# Altium integrated library Renesas Microcontroller R8C.IntLib: 628 symbols (part 23 of 33)
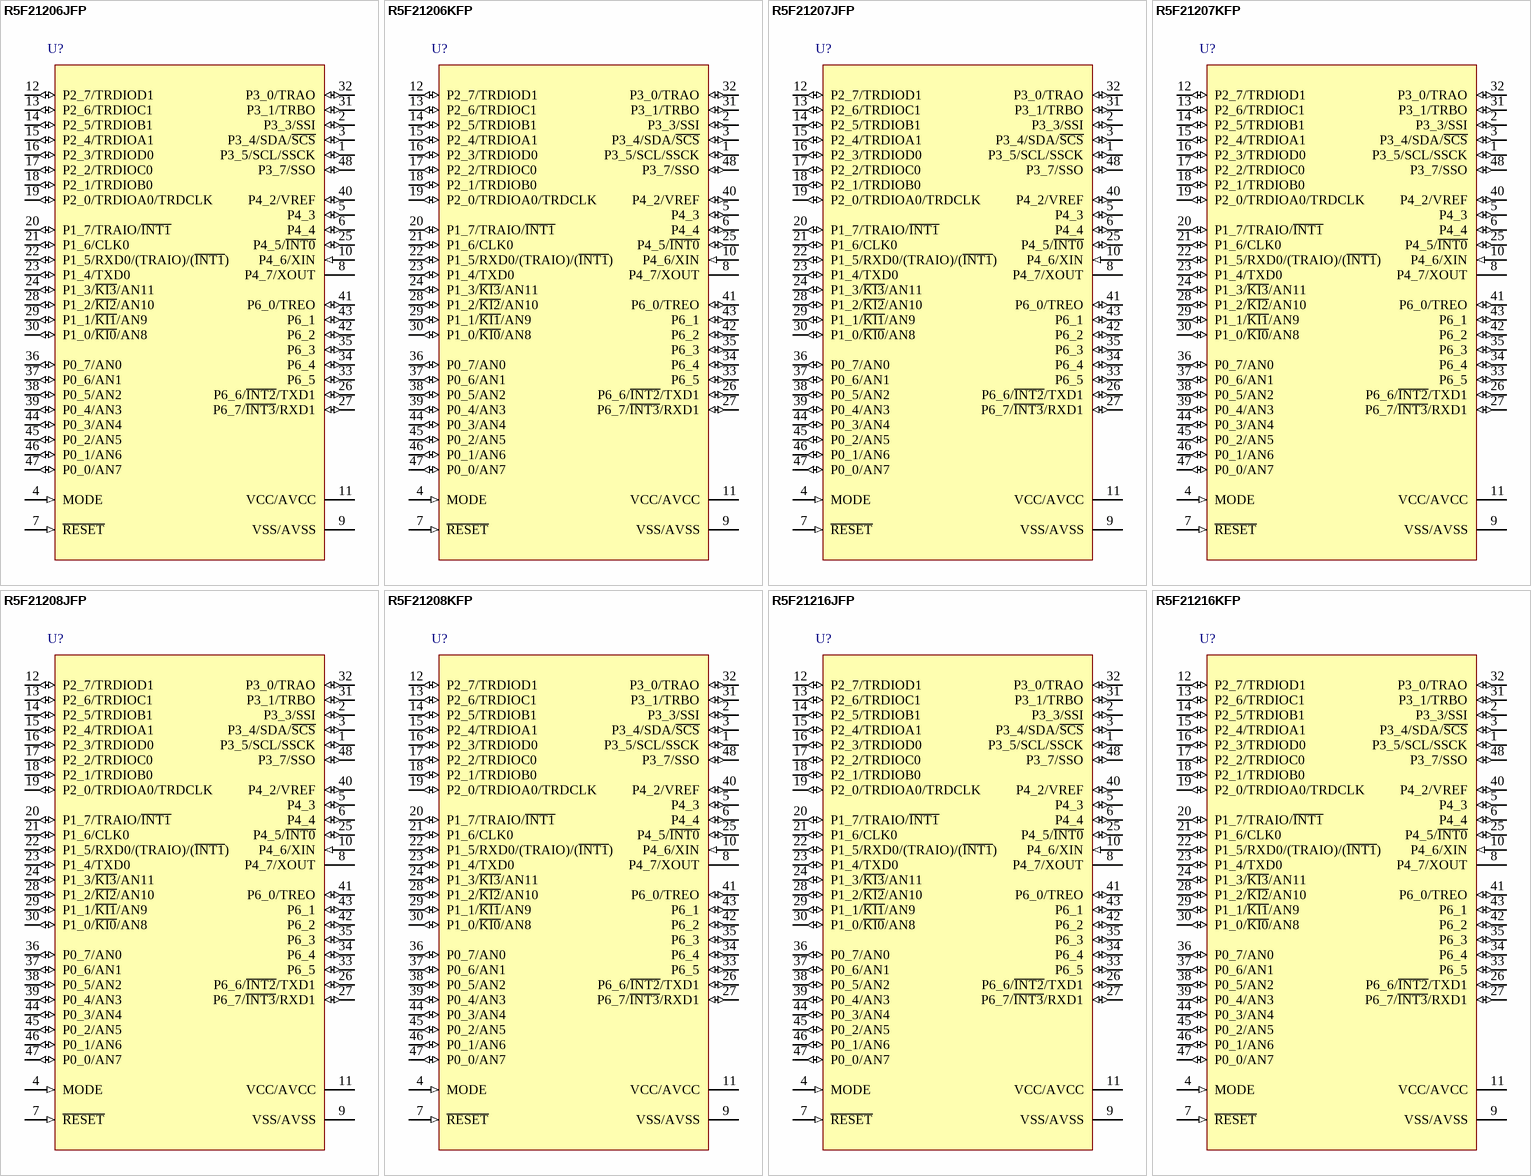
[diagram p138: symbols R5F21206JFP to R5F21216KFP]

## R5F21208JFP
designator U?
R8C/20 Group Single Chip 16-Bit CMOS MCU, 64K ROM, 3K RAM, J Version; Published: 30-Oct-2009; DatasheetVersion: Rev.2.00, Aug-2008; PackageVersion: Oct-2005; PackageReference: PLQP0048KB-A; Publisher: Altium Limited; PackageDescription: 48-Pin Plastic Low Profile QFP, 7 x 7 x 1.4 mm Body, 0.5 mm Pitch; Code_JEITA: P-LQFP48-7x7-0.50; Code_IPC: SQFP50P900X900-48; ComponentLink1Description: Manufacturer Link; ComponentLink1URL: http://sg.renesas.com/fmwk.jsp?cnt=r8c_family_landing.jsp&fp=/products/mpumcu/r8c_family/; ComponentLink2Description: Datasheet; ComponentLink2URL: http://documentation.renesas.com/eng/products/mpumcu/rej03b0120_r8c2021ds.pdf; ComponentLink3Description: Packaging Specification; ComponentLink3URL: http://sg.renesas.com/media/products/common_info/package/pdf/ic/code/plqp0048kb_a.pdf
footprint PLQP0048KB-A_N (Shrink QFP, 48-Leads, Body 7x7mm, Pitch 0.5mm, IPC Medium Density)
footprint PLQP0048KB-A_L (Shrink QFP, 48-Leads, Body 7x7mm, Pitch 0.5mm, IPC High Density)
footprint PLQP0048KB-A_M (Shrink QFP, 48-Leads, Body 7x7mm, Pitch 0.5mm, IPC Low Density)
pins: 1 P3_5/SCL/SSCK (io), 2 P3_3/SSI (io), 3 P3_4/SDA/~{SCS} (io), 4 MODE (in), 5 P4_3 (io), 6 P4_4 (io), 7 ~{RESET} (in), 8 P4_7/XOUT, 9 VSS/AVSS (power), 10 P4_6/XIN (in), 11 VCC/AVCC (power), 12 P2_7/TRDIOD1 (io), 13 P2_6/TRDIOC1 (io), 14 P2_5/TRDIOB1 (io), 15 P2_4/TRDIOA1 (io), 16 P2_3/TRDIOD0 (io), 17 P2_2/TRDIOC0 (io), 18 P2_1/TRDIOB0 (io), 19 P2_0/TRDIOA0/TRDCLK (io), 20 P1_7/TRAIO/~{INT1} (io), 21 P1_6/CLK0 (io), 22 P1_5/RXD0/(TRAIO)/(~{INT1}) (io), 23 P1_4/TXD0 (io), 24 P1_3/~{KI3}/AN11 (io), 25 P4_5/~{INT0} (io), 26 P6_6/~{INT2}/TXD1 (io), 27 P6_7/~{INT3}/RXD1 (io), 28 P1_2/~{KI2}/AN10 (io), 29 P1_1/~{KI1}/AN9 (io), 30 P1_0/~{KI0}/AN8 (io), 31 P3_1/TRBO (io), 32 P3_0/TRAO (io), 33 P6_5 (io), 34 P6_4 (io), 35 P6_3 (io), 36 P0_7/AN0 (io), 37 P0_6/AN1 (io), 38 P0_5/AN2 (io), 39 P0_4/AN3 (io), 40 P4_2/VREF (io), 41 P6_0/TREO (io), 42 P6_2 (io), 43 P6_1 (io), 44 P0_3/AN4 (io), 45 P0_2/AN5 (io), 46 P0_1/AN6 (io), 47 P0_0/AN7 (io), 48 P3_7/SSO (io)

## R5F21208KFP
designator U?
R8C/20 Group Single Chip 16-Bit CMOS MCU, 64K ROM, 3K RAM, K Version; Published: 30-Oct-2009; DatasheetVersion: Rev.2.00, Aug-2008; PackageVersion: Oct-2005; PackageReference: PLQP0048KB-A; Publisher: Altium Limited; PackageDescription: 48-Pin Plastic Low Profile QFP, 7 x 7 x 1.4 mm Body, 0.5 mm Pitch; Code_JEITA: P-LQFP48-7x7-0.50; Code_IPC: SQFP50P900X900-48; ComponentLink1Description: Manufacturer Link; ComponentLink1URL: http://sg.renesas.com/fmwk.jsp?cnt=r8c_family_landing.jsp&fp=/products/mpumcu/r8c_family/; ComponentLink2Description: Datasheet; ComponentLink2URL: http://documentation.renesas.com/eng/products/mpumcu/rej03b0120_r8c2021ds.pdf; ComponentLink3Description: Packaging Specification; ComponentLink3URL: http://sg.renesas.com/media/products/common_info/package/pdf/ic/code/plqp0048kb_a.pdf
footprint PLQP0048KB-A_N (Shrink QFP, 48-Leads, Body 7x7mm, Pitch 0.5mm, IPC Medium Density)
footprint PLQP0048KB-A_L (Shrink QFP, 48-Leads, Body 7x7mm, Pitch 0.5mm, IPC High Density)
footprint PLQP0048KB-A_M (Shrink QFP, 48-Leads, Body 7x7mm, Pitch 0.5mm, IPC Low Density)
pins: 1 P3_5/SCL/SSCK (io), 2 P3_3/SSI (io), 3 P3_4/SDA/~{SCS} (io), 4 MODE (in), 5 P4_3 (io), 6 P4_4 (io), 7 ~{RESET} (in), 8 P4_7/XOUT, 9 VSS/AVSS (power), 10 P4_6/XIN (in), 11 VCC/AVCC (power), 12 P2_7/TRDIOD1 (io), 13 P2_6/TRDIOC1 (io), 14 P2_5/TRDIOB1 (io), 15 P2_4/TRDIOA1 (io), 16 P2_3/TRDIOD0 (io), 17 P2_2/TRDIOC0 (io), 18 P2_1/TRDIOB0 (io), 19 P2_0/TRDIOA0/TRDCLK (io), 20 P1_7/TRAIO/~{INT1} (io), 21 P1_6/CLK0 (io), 22 P1_5/RXD0/(TRAIO)/(~{INT1}) (io), 23 P1_4/TXD0 (io), 24 P1_3/~{KI3}/AN11 (io), 25 P4_5/~{INT0} (io), 26 P6_6/~{INT2}/TXD1 (io), 27 P6_7/~{INT3}/RXD1 (io), 28 P1_2/~{KI2}/AN10 (io), 29 P1_1/~{KI1}/AN9 (io), 30 P1_0/~{KI0}/AN8 (io), 31 P3_1/TRBO (io), 32 P3_0/TRAO (io), 33 P6_5 (io), 34 P6_4 (io), 35 P6_3 (io), 36 P0_7/AN0 (io), 37 P0_6/AN1 (io), 38 P0_5/AN2 (io), 39 P0_4/AN3 (io), 40 P4_2/VREF (io), 41 P6_0/TREO (io), 42 P6_2 (io), 43 P6_1 (io), 44 P0_3/AN4 (io), 45 P0_2/AN5 (io), 46 P0_1/AN6 (io), 47 P0_0/AN7 (io), 48 P3_7/SSO (io)

## R5F21216JFP
designator U?
R8C/21 Group Single Chip 16-Bit CMOS MCU, 32K ROM + 1K x2 Data Flash, 2K RAM, J Version; Published: 30-Oct-2009; DatasheetVersion: Rev.2.00, Aug-2008; PackageVersion: Oct-2005; PackageReference: PLQP0048KB-A; Publisher: Altium Limited; PackageDescription: 48-Pin Plastic Low Profile QFP, 7 x 7 x 1.4 mm Body, 0.5 mm Pitch; Supplier 1: Digi-Key; Supplier Part Number 1: R5F21216JFP-ND; Code_JEITA: P-LQFP48-7x7-0.50; Code_IPC: SQFP50P900X900-48; ComponentLink1Description: Manufacturer Link; ComponentLink1URL: http://sg.renesas.com/fmwk.jsp?cnt=r8c_family_landing.jsp&fp=/products/mpumcu/r8c_family/; ComponentLink2Description: Datasheet; ComponentLink2URL: http://documentation.renesas.com/eng/products/mpumcu/rej03b0120_r8c2021ds.pdf; ComponentLink3Description: Packaging Specification; ComponentLink3URL: http://sg.renesas.com/media/products/common_info/package/pdf/ic/code/plqp0048kb_a.pdf
footprint PLQP0048KB-A_N (Shrink QFP, 48-Leads, Body 7x7mm, Pitch 0.5mm, IPC Medium Density)
footprint PLQP0048KB-A_L (Shrink QFP, 48-Leads, Body 7x7mm, Pitch 0.5mm, IPC High Density)
footprint PLQP0048KB-A_M (Shrink QFP, 48-Leads, Body 7x7mm, Pitch 0.5mm, IPC Low Density)
pins: 1 P3_5/SCL/SSCK (io), 2 P3_3/SSI (io), 3 P3_4/SDA/~{SCS} (io), 4 MODE (in), 5 P4_3 (io), 6 P4_4 (io), 7 ~{RESET} (in), 8 P4_7/XOUT, 9 VSS/AVSS (power), 10 P4_6/XIN (in), 11 VCC/AVCC (power), 12 P2_7/TRDIOD1 (io), 13 P2_6/TRDIOC1 (io), 14 P2_5/TRDIOB1 (io), 15 P2_4/TRDIOA1 (io), 16 P2_3/TRDIOD0 (io), 17 P2_2/TRDIOC0 (io), 18 P2_1/TRDIOB0 (io), 19 P2_0/TRDIOA0/TRDCLK (io), 20 P1_7/TRAIO/~{INT1} (io), 21 P1_6/CLK0 (io), 22 P1_5/RXD0/(TRAIO)/(~{INT1}) (io), 23 P1_4/TXD0 (io), 24 P1_3/~{KI3}/AN11 (io), 25 P4_5/~{INT0} (io), 26 P6_6/~{INT2}/TXD1 (io), 27 P6_7/~{INT3}/RXD1 (io), 28 P1_2/~{KI2}/AN10 (io), 29 P1_1/~{KI1}/AN9 (io), 30 P1_0/~{KI0}/AN8 (io), 31 P3_1/TRBO (io), 32 P3_0/TRAO (io), 33 P6_5 (io), 34 P6_4 (io), 35 P6_3 (io), 36 P0_7/AN0 (io), 37 P0_6/AN1 (io), 38 P0_5/AN2 (io), 39 P0_4/AN3 (io), 40 P4_2/VREF (io), 41 P6_0/TREO (io), 42 P6_2 (io), 43 P6_1 (io), 44 P0_3/AN4 (io), 45 P0_2/AN5 (io), 46 P0_1/AN6 (io), 47 P0_0/AN7 (io), 48 P3_7/SSO (io)

## R5F21216KFP
designator U?
R8C/21 Group Single Chip 16-Bit CMOS MCU, 32K ROM + 1K x2 Data Flash, 2K RAM, K Version; Published: 30-Oct-2009; DatasheetVersion: Rev.2.00, Aug-2008; PackageVersion: Oct-2005; PackageReference: PLQP0048KB-A; Publisher: Altium Limited; PackageDescription: 48-Pin Plastic Low Profile QFP, 7 x 7 x 1.4 mm Body, 0.5 mm Pitch; Code_JEITA: P-LQFP48-7x7-0.50; Code_IPC: SQFP50P900X900-48; ComponentLink1Description: Manufacturer Link; ComponentLink1URL: http://sg.renesas.com/fmwk.jsp?cnt=r8c_family_landing.jsp&fp=/products/mpumcu/r8c_family/; ComponentLink2Description: Datasheet; ComponentLink2URL: http://documentation.renesas.com/eng/products/mpumcu/rej03b0120_r8c2021ds.pdf; ComponentLink3Description: Packaging Specification; ComponentLink3URL: http://sg.renesas.com/media/products/common_info/package/pdf/ic/code/plqp0048kb_a.pdf
footprint PLQP0048KB-A_N (Shrink QFP, 48-Leads, Body 7x7mm, Pitch 0.5mm, IPC Medium Density)
footprint PLQP0048KB-A_L (Shrink QFP, 48-Leads, Body 7x7mm, Pitch 0.5mm, IPC High Density)
footprint PLQP0048KB-A_M (Shrink QFP, 48-Leads, Body 7x7mm, Pitch 0.5mm, IPC Low Density)
pins: 1 P3_5/SCL/SSCK (io), 2 P3_3/SSI (io), 3 P3_4/SDA/~{SCS} (io), 4 MODE (in), 5 P4_3 (io), 6 P4_4 (io), 7 ~{RESET} (in), 8 P4_7/XOUT, 9 VSS/AVSS (power), 10 P4_6/XIN (in), 11 VCC/AVCC (power), 12 P2_7/TRDIOD1 (io), 13 P2_6/TRDIOC1 (io), 14 P2_5/TRDIOB1 (io), 15 P2_4/TRDIOA1 (io), 16 P2_3/TRDIOD0 (io), 17 P2_2/TRDIOC0 (io), 18 P2_1/TRDIOB0 (io), 19 P2_0/TRDIOA0/TRDCLK (io), 20 P1_7/TRAIO/~{INT1} (io), 21 P1_6/CLK0 (io), 22 P1_5/RXD0/(TRAIO)/(~{INT1}) (io), 23 P1_4/TXD0 (io), 24 P1_3/~{KI3}/AN11 (io), 25 P4_5/~{INT0} (io), 26 P6_6/~{INT2}/TXD1 (io), 27 P6_7/~{INT3}/RXD1 (io), 28 P1_2/~{KI2}/AN10 (io), 29 P1_1/~{KI1}/AN9 (io), 30 P1_0/~{KI0}/AN8 (io), 31 P3_1/TRBO (io), 32 P3_0/TRAO (io), 33 P6_5 (io), 34 P6_4 (io), 35 P6_3 (io), 36 P0_7/AN0 (io), 37 P0_6/AN1 (io), 38 P0_5/AN2 (io), 39 P0_4/AN3 (io), 40 P4_2/VREF (io), 41 P6_0/TREO (io), 42 P6_2 (io), 43 P6_1 (io), 44 P0_3/AN4 (io), 45 P0_2/AN5 (io), 46 P0_1/AN6 (io), 47 P0_0/AN7 (io), 48 P3_7/SSO (io)

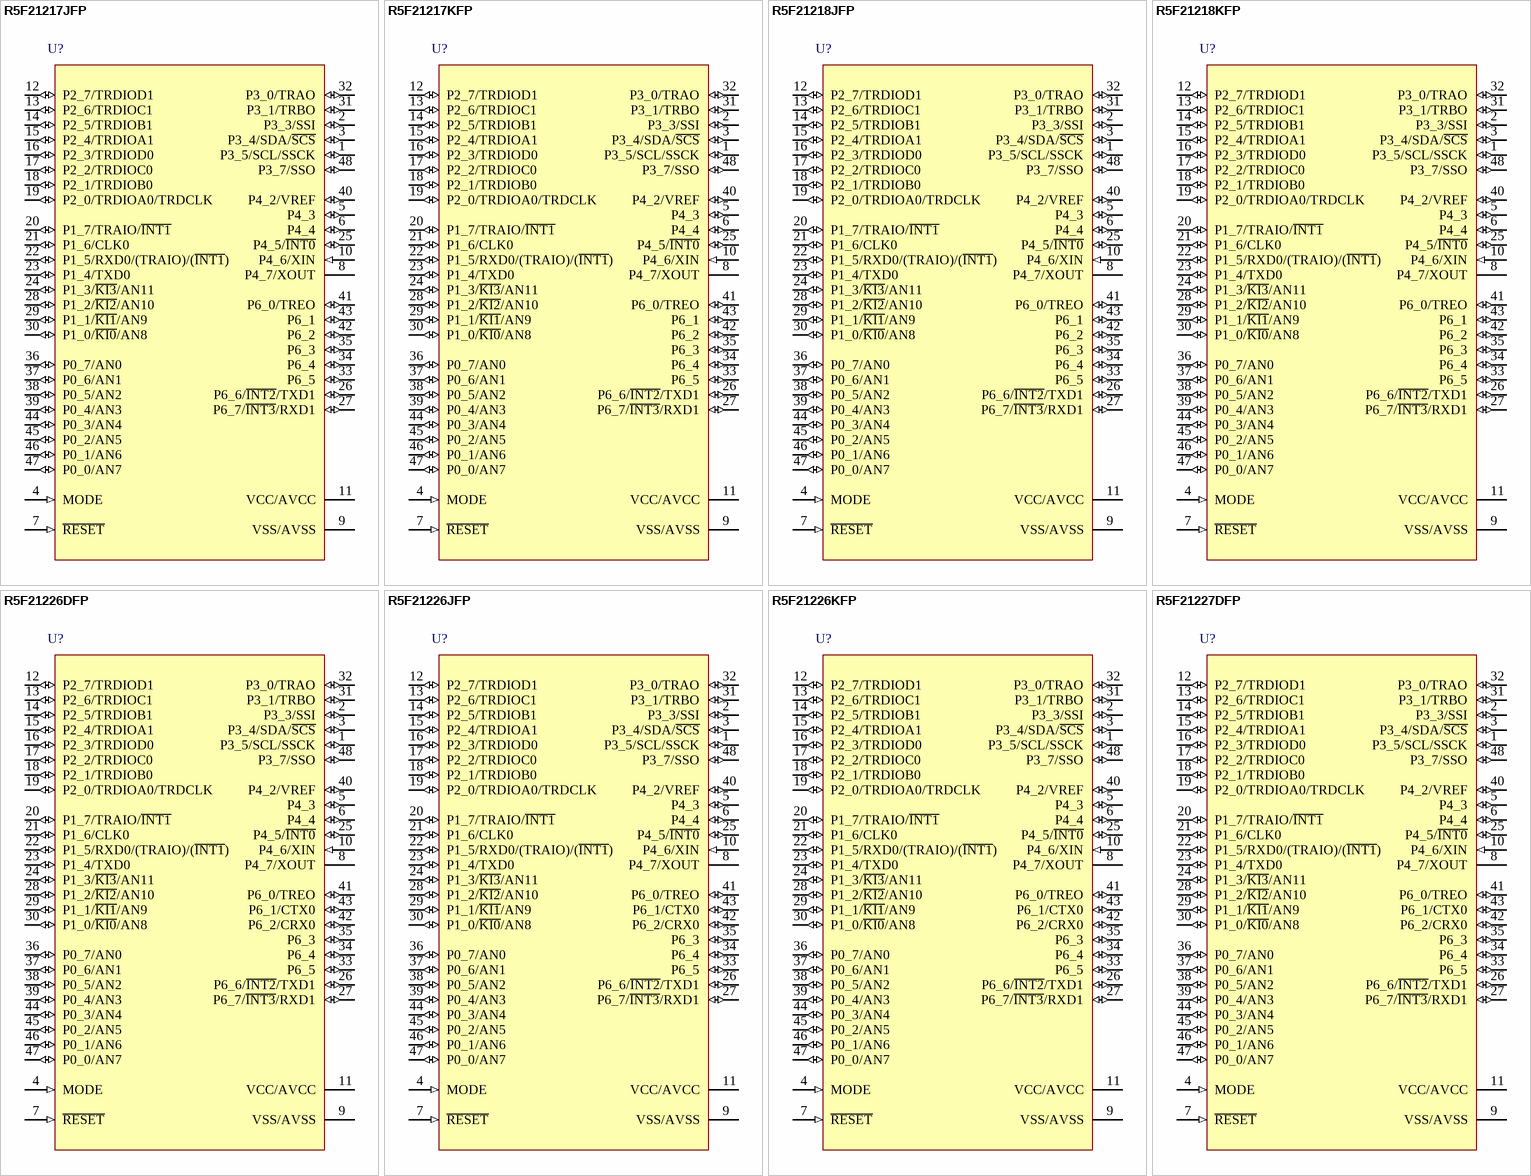
[diagram p80: symbols R5F21217JFP to R5F21227DFP]

## R5F21217JFP
designator U?
R8C/21 Group Single Chip 16-Bit CMOS MCU, 48K ROM + 1K x2 Data Flash, 2.5K RAM, J Version; Published: 30-Oct-2009; DatasheetVersion: Rev.2.00, Aug-2008; PackageVersion: Oct-2005; PackageReference: PLQP0048KB-A; Publisher: Altium Limited; PackageDescription: 48-Pin Plastic Low Profile QFP, 7 x 7 x 1.4 mm Body, 0.5 mm Pitch; Supplier 1: Digi-Key; Supplier Part Number 1: R5F21217JFP-ND; Code_JEITA: P-LQFP48-7x7-0.50; Code_IPC: SQFP50P900X900-48; ComponentLink1Description: Manufacturer Link; ComponentLink1URL: http://sg.renesas.com/fmwk.jsp?cnt=r8c_family_landing.jsp&fp=/products/mpumcu/r8c_family/; ComponentLink2Description: Datasheet; ComponentLink2URL: http://documentation.renesas.com/eng/products/mpumcu/rej03b0120_r8c2021ds.pdf; ComponentLink3Description: Packaging Specification; ComponentLink3URL: http://sg.renesas.com/media/products/common_info/package/pdf/ic/code/plqp0048kb_a.pdf
footprint PLQP0048KB-A_N (Shrink QFP, 48-Leads, Body 7x7mm, Pitch 0.5mm, IPC Medium Density)
footprint PLQP0048KB-A_L (Shrink QFP, 48-Leads, Body 7x7mm, Pitch 0.5mm, IPC High Density)
footprint PLQP0048KB-A_M (Shrink QFP, 48-Leads, Body 7x7mm, Pitch 0.5mm, IPC Low Density)
pins: 1 P3_5/SCL/SSCK (io), 2 P3_3/SSI (io), 3 P3_4/SDA/~{SCS} (io), 4 MODE (in), 5 P4_3 (io), 6 P4_4 (io), 7 ~{RESET} (in), 8 P4_7/XOUT, 9 VSS/AVSS (power), 10 P4_6/XIN (in), 11 VCC/AVCC (power), 12 P2_7/TRDIOD1 (io), 13 P2_6/TRDIOC1 (io), 14 P2_5/TRDIOB1 (io), 15 P2_4/TRDIOA1 (io), 16 P2_3/TRDIOD0 (io), 17 P2_2/TRDIOC0 (io), 18 P2_1/TRDIOB0 (io), 19 P2_0/TRDIOA0/TRDCLK (io), 20 P1_7/TRAIO/~{INT1} (io), 21 P1_6/CLK0 (io), 22 P1_5/RXD0/(TRAIO)/(~{INT1}) (io), 23 P1_4/TXD0 (io), 24 P1_3/~{KI3}/AN11 (io), 25 P4_5/~{INT0} (io), 26 P6_6/~{INT2}/TXD1 (io), 27 P6_7/~{INT3}/RXD1 (io), 28 P1_2/~{KI2}/AN10 (io), 29 P1_1/~{KI1}/AN9 (io), 30 P1_0/~{KI0}/AN8 (io), 31 P3_1/TRBO (io), 32 P3_0/TRAO (io), 33 P6_5 (io), 34 P6_4 (io), 35 P6_3 (io), 36 P0_7/AN0 (io), 37 P0_6/AN1 (io), 38 P0_5/AN2 (io), 39 P0_4/AN3 (io), 40 P4_2/VREF (io), 41 P6_0/TREO (io), 42 P6_2 (io), 43 P6_1 (io), 44 P0_3/AN4 (io), 45 P0_2/AN5 (io), 46 P0_1/AN6 (io), 47 P0_0/AN7 (io), 48 P3_7/SSO (io)

## R5F21217KFP
designator U?
R8C/21 Group Single Chip 16-Bit CMOS MCU, 48K ROM + 1K x2 Data Flash, 2.5K RAM, K Version; Published: 30-Oct-2009; DatasheetVersion: Rev.2.00, Aug-2008; PackageVersion: Oct-2005; PackageReference: PLQP0048KB-A; Publisher: Altium Limited; PackageDescription: 48-Pin Plastic Low Profile QFP, 7 x 7 x 1.4 mm Body, 0.5 mm Pitch; Code_JEITA: P-LQFP48-7x7-0.50; Code_IPC: SQFP50P900X900-48; ComponentLink1Description: Manufacturer Link; ComponentLink1URL: http://sg.renesas.com/fmwk.jsp?cnt=r8c_family_landing.jsp&fp=/products/mpumcu/r8c_family/; ComponentLink2Description: Datasheet; ComponentLink2URL: http://documentation.renesas.com/eng/products/mpumcu/rej03b0120_r8c2021ds.pdf; ComponentLink3Description: Packaging Specification; ComponentLink3URL: http://sg.renesas.com/media/products/common_info/package/pdf/ic/code/plqp0048kb_a.pdf
footprint PLQP0048KB-A_N (Shrink QFP, 48-Leads, Body 7x7mm, Pitch 0.5mm, IPC Medium Density)
footprint PLQP0048KB-A_L (Shrink QFP, 48-Leads, Body 7x7mm, Pitch 0.5mm, IPC High Density)
footprint PLQP0048KB-A_M (Shrink QFP, 48-Leads, Body 7x7mm, Pitch 0.5mm, IPC Low Density)
pins: 1 P3_5/SCL/SSCK (io), 2 P3_3/SSI (io), 3 P3_4/SDA/~{SCS} (io), 4 MODE (in), 5 P4_3 (io), 6 P4_4 (io), 7 ~{RESET} (in), 8 P4_7/XOUT, 9 VSS/AVSS (power), 10 P4_6/XIN (in), 11 VCC/AVCC (power), 12 P2_7/TRDIOD1 (io), 13 P2_6/TRDIOC1 (io), 14 P2_5/TRDIOB1 (io), 15 P2_4/TRDIOA1 (io), 16 P2_3/TRDIOD0 (io), 17 P2_2/TRDIOC0 (io), 18 P2_1/TRDIOB0 (io), 19 P2_0/TRDIOA0/TRDCLK (io), 20 P1_7/TRAIO/~{INT1} (io), 21 P1_6/CLK0 (io), 22 P1_5/RXD0/(TRAIO)/(~{INT1}) (io), 23 P1_4/TXD0 (io), 24 P1_3/~{KI3}/AN11 (io), 25 P4_5/~{INT0} (io), 26 P6_6/~{INT2}/TXD1 (io), 27 P6_7/~{INT3}/RXD1 (io), 28 P1_2/~{KI2}/AN10 (io), 29 P1_1/~{KI1}/AN9 (io), 30 P1_0/~{KI0}/AN8 (io), 31 P3_1/TRBO (io), 32 P3_0/TRAO (io), 33 P6_5 (io), 34 P6_4 (io), 35 P6_3 (io), 36 P0_7/AN0 (io), 37 P0_6/AN1 (io), 38 P0_5/AN2 (io), 39 P0_4/AN3 (io), 40 P4_2/VREF (io), 41 P6_0/TREO (io), 42 P6_2 (io), 43 P6_1 (io), 44 P0_3/AN4 (io), 45 P0_2/AN5 (io), 46 P0_1/AN6 (io), 47 P0_0/AN7 (io), 48 P3_7/SSO (io)

## R5F21218JFP
designator U?
R8C/21 Group Single Chip 16-Bit CMOS MCU, 64K ROM + 1K x2 Data Flash, 3K RAM, J Version; Published: 30-Oct-2009; DatasheetVersion: Rev.2.00, Aug-2008; PackageVersion: Oct-2005; PackageReference: PLQP0048KB-A; Publisher: Altium Limited; PackageDescription: 48-Pin Plastic Low Profile QFP, 7 x 7 x 1.4 mm Body, 0.5 mm Pitch; Code_JEITA: P-LQFP48-7x7-0.50; Code_IPC: SQFP50P900X900-48; ComponentLink1Description: Manufacturer Link; ComponentLink1URL: http://sg.renesas.com/fmwk.jsp?cnt=r8c_family_landing.jsp&fp=/products/mpumcu/r8c_family/; ComponentLink2Description: Datasheet; ComponentLink2URL: http://documentation.renesas.com/eng/products/mpumcu/rej03b0120_r8c2021ds.pdf; ComponentLink3Description: Packaging Specification; ComponentLink3URL: http://sg.renesas.com/media/products/common_info/package/pdf/ic/code/plqp0048kb_a.pdf
footprint PLQP0048KB-A_N (Shrink QFP, 48-Leads, Body 7x7mm, Pitch 0.5mm, IPC Medium Density)
footprint PLQP0048KB-A_L (Shrink QFP, 48-Leads, Body 7x7mm, Pitch 0.5mm, IPC High Density)
footprint PLQP0048KB-A_M (Shrink QFP, 48-Leads, Body 7x7mm, Pitch 0.5mm, IPC Low Density)
pins: 1 P3_5/SCL/SSCK (io), 2 P3_3/SSI (io), 3 P3_4/SDA/~{SCS} (io), 4 MODE (in), 5 P4_3 (io), 6 P4_4 (io), 7 ~{RESET} (in), 8 P4_7/XOUT, 9 VSS/AVSS (power), 10 P4_6/XIN (in), 11 VCC/AVCC (power), 12 P2_7/TRDIOD1 (io), 13 P2_6/TRDIOC1 (io), 14 P2_5/TRDIOB1 (io), 15 P2_4/TRDIOA1 (io), 16 P2_3/TRDIOD0 (io), 17 P2_2/TRDIOC0 (io), 18 P2_1/TRDIOB0 (io), 19 P2_0/TRDIOA0/TRDCLK (io), 20 P1_7/TRAIO/~{INT1} (io), 21 P1_6/CLK0 (io), 22 P1_5/RXD0/(TRAIO)/(~{INT1}) (io), 23 P1_4/TXD0 (io), 24 P1_3/~{KI3}/AN11 (io), 25 P4_5/~{INT0} (io), 26 P6_6/~{INT2}/TXD1 (io), 27 P6_7/~{INT3}/RXD1 (io), 28 P1_2/~{KI2}/AN10 (io), 29 P1_1/~{KI1}/AN9 (io), 30 P1_0/~{KI0}/AN8 (io), 31 P3_1/TRBO (io), 32 P3_0/TRAO (io), 33 P6_5 (io), 34 P6_4 (io), 35 P6_3 (io), 36 P0_7/AN0 (io), 37 P0_6/AN1 (io), 38 P0_5/AN2 (io), 39 P0_4/AN3 (io), 40 P4_2/VREF (io), 41 P6_0/TREO (io), 42 P6_2 (io), 43 P6_1 (io), 44 P0_3/AN4 (io), 45 P0_2/AN5 (io), 46 P0_1/AN6 (io), 47 P0_0/AN7 (io), 48 P3_7/SSO (io)

## R5F21218KFP
designator U?
R8C/21 Group Single Chip 16-Bit CMOS MCU, 64K ROM + 1K x2 Data Flash, 3K RAM, K Version; Published: 30-Oct-2009; DatasheetVersion: Rev.2.00, Aug-2008; PackageVersion: Oct-2005; PackageReference: PLQP0048KB-A; Publisher: Altium Limited; PackageDescription: 48-Pin Plastic Low Profile QFP, 7 x 7 x 1.4 mm Body, 0.5 mm Pitch; Code_JEITA: P-LQFP48-7x7-0.50; Code_IPC: SQFP50P900X900-48; ComponentLink1Description: Manufacturer Link; ComponentLink1URL: http://sg.renesas.com/fmwk.jsp?cnt=r8c_family_landing.jsp&fp=/products/mpumcu/r8c_family/; ComponentLink2Description: Datasheet; ComponentLink2URL: http://documentation.renesas.com/eng/products/mpumcu/rej03b0120_r8c2021ds.pdf; ComponentLink3Description: Packaging Specification; ComponentLink3URL: http://sg.renesas.com/media/products/common_info/package/pdf/ic/code/plqp0048kb_a.pdf
footprint PLQP0048KB-A_N (Shrink QFP, 48-Leads, Body 7x7mm, Pitch 0.5mm, IPC Medium Density)
footprint PLQP0048KB-A_L (Shrink QFP, 48-Leads, Body 7x7mm, Pitch 0.5mm, IPC High Density)
footprint PLQP0048KB-A_M (Shrink QFP, 48-Leads, Body 7x7mm, Pitch 0.5mm, IPC Low Density)
pins: 1 P3_5/SCL/SSCK (io), 2 P3_3/SSI (io), 3 P3_4/SDA/~{SCS} (io), 4 MODE (in), 5 P4_3 (io), 6 P4_4 (io), 7 ~{RESET} (in), 8 P4_7/XOUT, 9 VSS/AVSS (power), 10 P4_6/XIN (in), 11 VCC/AVCC (power), 12 P2_7/TRDIOD1 (io), 13 P2_6/TRDIOC1 (io), 14 P2_5/TRDIOB1 (io), 15 P2_4/TRDIOA1 (io), 16 P2_3/TRDIOD0 (io), 17 P2_2/TRDIOC0 (io), 18 P2_1/TRDIOB0 (io), 19 P2_0/TRDIOA0/TRDCLK (io), 20 P1_7/TRAIO/~{INT1} (io), 21 P1_6/CLK0 (io), 22 P1_5/RXD0/(TRAIO)/(~{INT1}) (io), 23 P1_4/TXD0 (io), 24 P1_3/~{KI3}/AN11 (io), 25 P4_5/~{INT0} (io), 26 P6_6/~{INT2}/TXD1 (io), 27 P6_7/~{INT3}/RXD1 (io), 28 P1_2/~{KI2}/AN10 (io), 29 P1_1/~{KI1}/AN9 (io), 30 P1_0/~{KI0}/AN8 (io), 31 P3_1/TRBO (io), 32 P3_0/TRAO (io), 33 P6_5 (io), 34 P6_4 (io), 35 P6_3 (io), 36 P0_7/AN0 (io), 37 P0_6/AN1 (io), 38 P0_5/AN2 (io), 39 P0_4/AN3 (io), 40 P4_2/VREF (io), 41 P6_0/TREO (io), 42 P6_2 (io), 43 P6_1 (io), 44 P0_3/AN4 (io), 45 P0_2/AN5 (io), 46 P0_1/AN6 (io), 47 P0_0/AN7 (io), 48 P3_7/SSO (io)

## R5F21226DFP
designator U?
R8C/22 Group Single Chip 16-Bit CMOS MCU, 32K ROM, 2K RAM, D Version; Published: 30-Oct-2009; DatasheetVersion: Rev.2.00, Aug-2008; PackageVersion: Oct-2005; PackageReference: PLQP0048KB-A; Publisher: Altium Limited; PackageDescription: 48-Pin Plastic Low Profile QFP, 7 x 7 x 1.4 mm Body, 0.5 mm Pitch; Code_JEITA: P-LQFP48-7x7-0.50; Code_IPC: SQFP50P900X900-48; ComponentLink1Description: Manufacturer Link; ComponentLink1URL: http://sg.renesas.com/fmwk.jsp?cnt=r8c_family_landing.jsp&fp=/products/mpumcu/r8c_family/; ComponentLink2Description: Datasheet; ComponentLink2URL: http://documentation.renesas.com/eng/products/mpumcu/rej03b0097_r8c2223ds.pdf; ComponentLink3Description: Packaging Specification; ComponentLink3URL: http://sg.renesas.com/media/products/common_info/package/pdf/ic/code/plqp0048kb_a.pdf
footprint PLQP0048KB-A_N (Shrink QFP, 48-Leads, Body 7x7mm, Pitch 0.5mm, IPC Medium Density)
footprint PLQP0048KB-A_L (Shrink QFP, 48-Leads, Body 7x7mm, Pitch 0.5mm, IPC High Density)
footprint PLQP0048KB-A_M (Shrink QFP, 48-Leads, Body 7x7mm, Pitch 0.5mm, IPC Low Density)
pins: 1 P3_5/SCL/SSCK (io), 2 P3_3/SSI (io), 3 P3_4/SDA/~{SCS} (io), 4 MODE (in), 5 P4_3 (io), 6 P4_4 (io), 7 ~{RESET} (in), 8 P4_7/XOUT, 9 VSS/AVSS (power), 10 P4_6/XIN (in), 11 VCC/AVCC (power), 12 P2_7/TRDIOD1 (io), 13 P2_6/TRDIOC1 (io), 14 P2_5/TRDIOB1 (io), 15 P2_4/TRDIOA1 (io), 16 P2_3/TRDIOD0 (io), 17 P2_2/TRDIOC0 (io), 18 P2_1/TRDIOB0 (io), 19 P2_0/TRDIOA0/TRDCLK (io), 20 P1_7/TRAIO/~{INT1} (io), 21 P1_6/CLK0 (io), 22 P1_5/RXD0/(TRAIO)/(~{INT1}) (io), 23 P1_4/TXD0 (io), 24 P1_3/~{KI3}/AN11 (io), 25 P4_5/~{INT0} (io), 26 P6_6/~{INT2}/TXD1 (io), 27 P6_7/~{INT3}/RXD1 (io), 28 P1_2/~{KI2}/AN10 (io), 29 P1_1/~{KI1}/AN9 (io), 30 P1_0/~{KI0}/AN8 (io), 31 P3_1/TRBO (io), 32 P3_0/TRAO (io), 33 P6_5 (io), 34 P6_4 (io), 35 P6_3 (io), 36 P0_7/AN0 (io), 37 P0_6/AN1 (io), 38 P0_5/AN2 (io), 39 P0_4/AN3 (io), 40 P4_2/VREF (io), 41 P6_0/TREO (io), 42 P6_2/CRX0 (io), 43 P6_1/CTX0 (io), 44 P0_3/AN4 (io), 45 P0_2/AN5 (io), 46 P0_1/AN6 (io), 47 P0_0/AN7 (io), 48 P3_7/SSO (io)

## R5F21226JFP
designator U?
R8C/22 Group Single Chip 16-Bit CMOS MCU, 32K ROM, 2K RAM, J Version; Published: 30-Oct-2009; DatasheetVersion: Rev.2.00, Aug-2008; PackageVersion: Oct-2005; PackageReference: PLQP0048KB-A; Publisher: Altium Limited; PackageDescription: 48-Pin Plastic Low Profile QFP, 7 x 7 x 1.4 mm Body, 0.5 mm Pitch; Code_JEITA: P-LQFP48-7x7-0.50; Code_IPC: SQFP50P900X900-48; ComponentLink1Description: Manufacturer Link; ComponentLink1URL: http://sg.renesas.com/fmwk.jsp?cnt=r8c_family_landing.jsp&fp=/products/mpumcu/r8c_family/; ComponentLink2Description: Datasheet; ComponentLink2URL: http://documentation.renesas.com/eng/products/mpumcu/rej03b0097_r8c2223ds.pdf; ComponentLink3Description: Packaging Specification; ComponentLink3URL: http://sg.renesas.com/media/products/common_info/package/pdf/ic/code/plqp0048kb_a.pdf
footprint PLQP0048KB-A_N (Shrink QFP, 48-Leads, Body 7x7mm, Pitch 0.5mm, IPC Medium Density)
footprint PLQP0048KB-A_L (Shrink QFP, 48-Leads, Body 7x7mm, Pitch 0.5mm, IPC High Density)
footprint PLQP0048KB-A_M (Shrink QFP, 48-Leads, Body 7x7mm, Pitch 0.5mm, IPC Low Density)
pins: 1 P3_5/SCL/SSCK (io), 2 P3_3/SSI (io), 3 P3_4/SDA/~{SCS} (io), 4 MODE (in), 5 P4_3 (io), 6 P4_4 (io), 7 ~{RESET} (in), 8 P4_7/XOUT, 9 VSS/AVSS (power), 10 P4_6/XIN (in), 11 VCC/AVCC (power), 12 P2_7/TRDIOD1 (io), 13 P2_6/TRDIOC1 (io), 14 P2_5/TRDIOB1 (io), 15 P2_4/TRDIOA1 (io), 16 P2_3/TRDIOD0 (io), 17 P2_2/TRDIOC0 (io), 18 P2_1/TRDIOB0 (io), 19 P2_0/TRDIOA0/TRDCLK (io), 20 P1_7/TRAIO/~{INT1} (io), 21 P1_6/CLK0 (io), 22 P1_5/RXD0/(TRAIO)/(~{INT1}) (io), 23 P1_4/TXD0 (io), 24 P1_3/~{KI3}/AN11 (io), 25 P4_5/~{INT0} (io), 26 P6_6/~{INT2}/TXD1 (io), 27 P6_7/~{INT3}/RXD1 (io), 28 P1_2/~{KI2}/AN10 (io), 29 P1_1/~{KI1}/AN9 (io), 30 P1_0/~{KI0}/AN8 (io), 31 P3_1/TRBO (io), 32 P3_0/TRAO (io), 33 P6_5 (io), 34 P6_4 (io), 35 P6_3 (io), 36 P0_7/AN0 (io), 37 P0_6/AN1 (io), 38 P0_5/AN2 (io), 39 P0_4/AN3 (io), 40 P4_2/VREF (io), 41 P6_0/TREO (io), 42 P6_2/CRX0 (io), 43 P6_1/CTX0 (io), 44 P0_3/AN4 (io), 45 P0_2/AN5 (io), 46 P0_1/AN6 (io), 47 P0_0/AN7 (io), 48 P3_7/SSO (io)

## R5F21226KFP
designator U?
R8C/22 Group Single Chip 16-Bit CMOS MCU, 32K ROM, 2K RAM, K Version; Published: 30-Oct-2009; DatasheetVersion: Rev.2.00, Aug-2008; PackageVersion: Oct-2005; PackageReference: PLQP0048KB-A; Publisher: Altium Limited; PackageDescription: 48-Pin Plastic Low Profile QFP, 7 x 7 x 1.4 mm Body, 0.5 mm Pitch; Code_JEITA: P-LQFP48-7x7-0.50; Code_IPC: SQFP50P900X900-48; ComponentLink1Description: Manufacturer Link; ComponentLink1URL: http://sg.renesas.com/fmwk.jsp?cnt=r8c_family_landing.jsp&fp=/products/mpumcu/r8c_family/; ComponentLink2Description: Datasheet; ComponentLink2URL: http://documentation.renesas.com/eng/products/mpumcu/rej03b0097_r8c2223ds.pdf; ComponentLink3Description: Packaging Specification; ComponentLink3URL: http://sg.renesas.com/media/products/common_info/package/pdf/ic/code/plqp0048kb_a.pdf
footprint PLQP0048KB-A_N (Shrink QFP, 48-Leads, Body 7x7mm, Pitch 0.5mm, IPC Medium Density)
footprint PLQP0048KB-A_L (Shrink QFP, 48-Leads, Body 7x7mm, Pitch 0.5mm, IPC High Density)
footprint PLQP0048KB-A_M (Shrink QFP, 48-Leads, Body 7x7mm, Pitch 0.5mm, IPC Low Density)
pins: 1 P3_5/SCL/SSCK (io), 2 P3_3/SSI (io), 3 P3_4/SDA/~{SCS} (io), 4 MODE (in), 5 P4_3 (io), 6 P4_4 (io), 7 ~{RESET} (in), 8 P4_7/XOUT, 9 VSS/AVSS (power), 10 P4_6/XIN (in), 11 VCC/AVCC (power), 12 P2_7/TRDIOD1 (io), 13 P2_6/TRDIOC1 (io), 14 P2_5/TRDIOB1 (io), 15 P2_4/TRDIOA1 (io), 16 P2_3/TRDIOD0 (io), 17 P2_2/TRDIOC0 (io), 18 P2_1/TRDIOB0 (io), 19 P2_0/TRDIOA0/TRDCLK (io), 20 P1_7/TRAIO/~{INT1} (io), 21 P1_6/CLK0 (io), 22 P1_5/RXD0/(TRAIO)/(~{INT1}) (io), 23 P1_4/TXD0 (io), 24 P1_3/~{KI3}/AN11 (io), 25 P4_5/~{INT0} (io), 26 P6_6/~{INT2}/TXD1 (io), 27 P6_7/~{INT3}/RXD1 (io), 28 P1_2/~{KI2}/AN10 (io), 29 P1_1/~{KI1}/AN9 (io), 30 P1_0/~{KI0}/AN8 (io), 31 P3_1/TRBO (io), 32 P3_0/TRAO (io), 33 P6_5 (io), 34 P6_4 (io), 35 P6_3 (io), 36 P0_7/AN0 (io), 37 P0_6/AN1 (io), 38 P0_5/AN2 (io), 39 P0_4/AN3 (io), 40 P4_2/VREF (io), 41 P6_0/TREO (io), 42 P6_2/CRX0 (io), 43 P6_1/CTX0 (io), 44 P0_3/AN4 (io), 45 P0_2/AN5 (io), 46 P0_1/AN6 (io), 47 P0_0/AN7 (io), 48 P3_7/SSO (io)

## R5F21227DFP
designator U?
R8C/22 Group Single Chip 16-Bit CMOS MCU, 48K ROM, 2.5K RAM, D Version; Published: 30-Oct-2009; DatasheetVersion: Rev.2.00, Aug-2008; PackageVersion: Oct-2005; PackageReference: PLQP0048KB-A; Publisher: Altium Limited; PackageDescription: 48-Pin Plastic Low Profile QFP, 7 x 7 x 1.4 mm Body, 0.5 mm Pitch; Code_JEITA: P-LQFP48-7x7-0.50; Code_IPC: SQFP50P900X900-48; ComponentLink1Description: Manufacturer Link; ComponentLink1URL: http://sg.renesas.com/fmwk.jsp?cnt=r8c_family_landing.jsp&fp=/products/mpumcu/r8c_family/; ComponentLink2Description: Datasheet; ComponentLink2URL: http://documentation.renesas.com/eng/products/mpumcu/rej03b0097_r8c2223ds.pdf; ComponentLink3Description: Packaging Specification; ComponentLink3URL: http://sg.renesas.com/media/products/common_info/package/pdf/ic/code/plqp0048kb_a.pdf
footprint PLQP0048KB-A_N (Shrink QFP, 48-Leads, Body 7x7mm, Pitch 0.5mm, IPC Medium Density)
footprint PLQP0048KB-A_L (Shrink QFP, 48-Leads, Body 7x7mm, Pitch 0.5mm, IPC High Density)
footprint PLQP0048KB-A_M (Shrink QFP, 48-Leads, Body 7x7mm, Pitch 0.5mm, IPC Low Density)
pins: 1 P3_5/SCL/SSCK (io), 2 P3_3/SSI (io), 3 P3_4/SDA/~{SCS} (io), 4 MODE (in), 5 P4_3 (io), 6 P4_4 (io), 7 ~{RESET} (in), 8 P4_7/XOUT, 9 VSS/AVSS (power), 10 P4_6/XIN (in), 11 VCC/AVCC (power), 12 P2_7/TRDIOD1 (io), 13 P2_6/TRDIOC1 (io), 14 P2_5/TRDIOB1 (io), 15 P2_4/TRDIOA1 (io), 16 P2_3/TRDIOD0 (io), 17 P2_2/TRDIOC0 (io), 18 P2_1/TRDIOB0 (io), 19 P2_0/TRDIOA0/TRDCLK (io), 20 P1_7/TRAIO/~{INT1} (io), 21 P1_6/CLK0 (io), 22 P1_5/RXD0/(TRAIO)/(~{INT1}) (io), 23 P1_4/TXD0 (io), 24 P1_3/~{KI3}/AN11 (io), 25 P4_5/~{INT0} (io), 26 P6_6/~{INT2}/TXD1 (io), 27 P6_7/~{INT3}/RXD1 (io), 28 P1_2/~{KI2}/AN10 (io), 29 P1_1/~{KI1}/AN9 (io), 30 P1_0/~{KI0}/AN8 (io), 31 P3_1/TRBO (io), 32 P3_0/TRAO (io), 33 P6_5 (io), 34 P6_4 (io), 35 P6_3 (io), 36 P0_7/AN0 (io), 37 P0_6/AN1 (io), 38 P0_5/AN2 (io), 39 P0_4/AN3 (io), 40 P4_2/VREF (io), 41 P6_0/TREO (io), 42 P6_2/CRX0 (io), 43 P6_1/CTX0 (io), 44 P0_3/AN4 (io), 45 P0_2/AN5 (io), 46 P0_1/AN6 (io), 47 P0_0/AN7 (io), 48 P3_7/SSO (io)

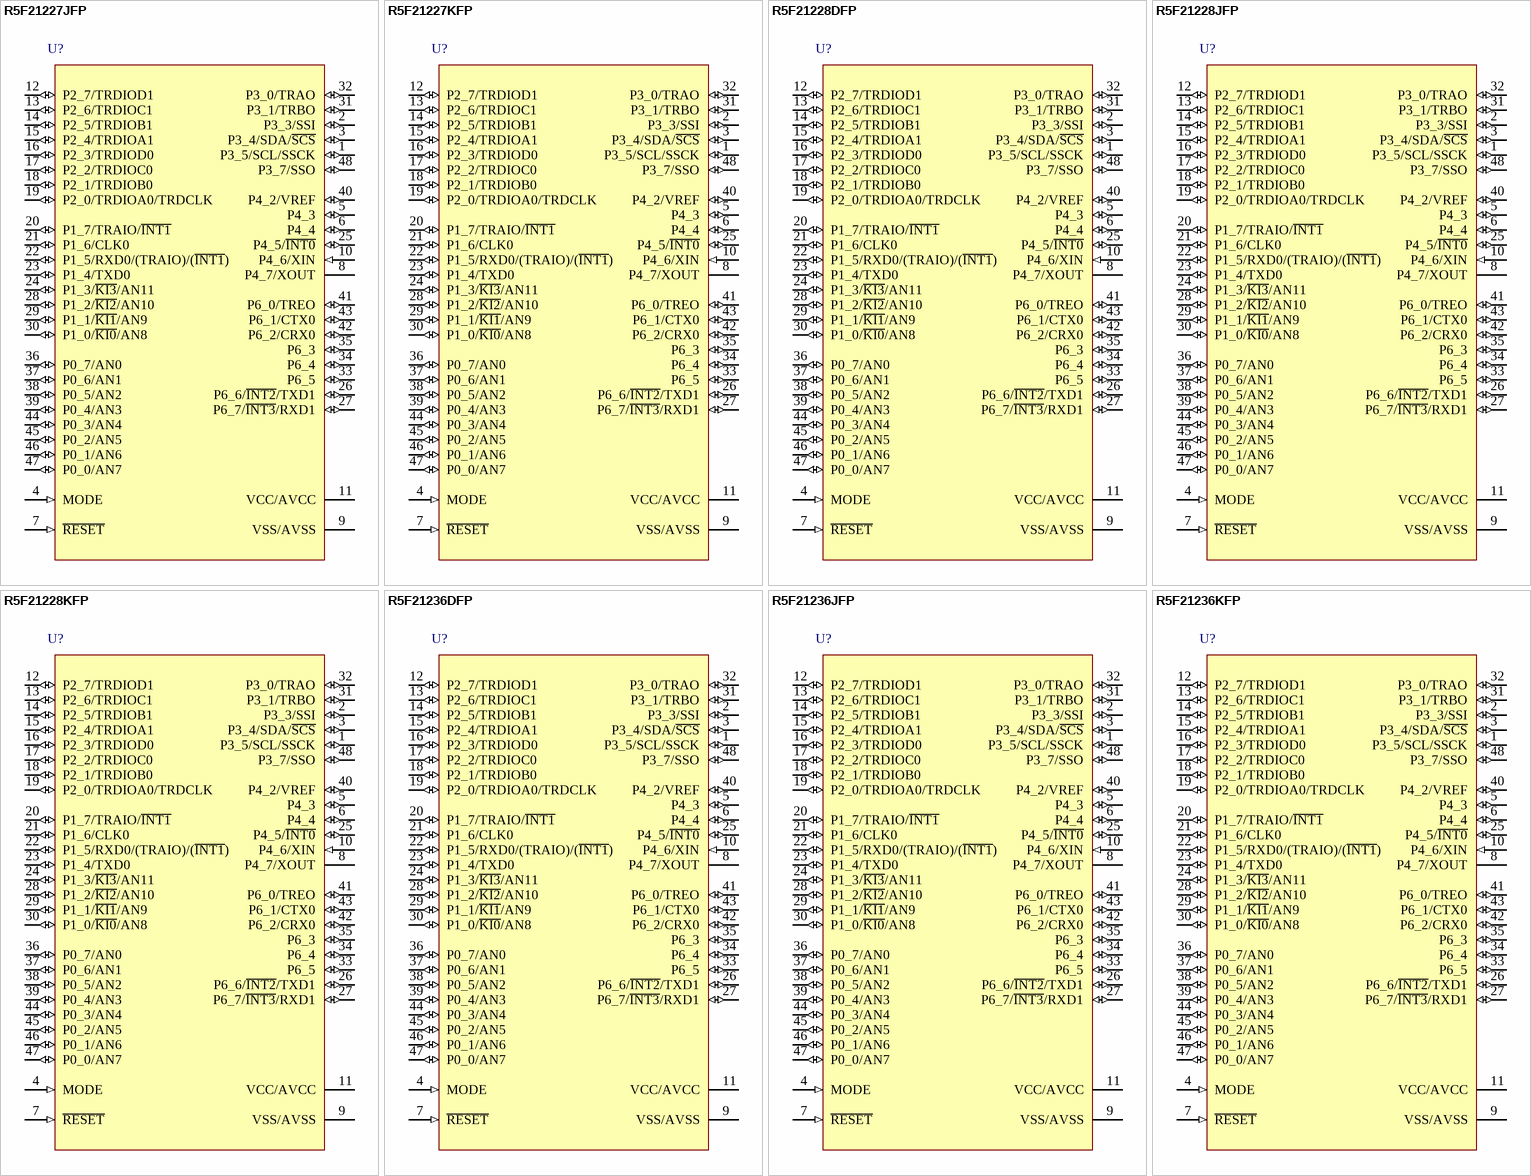
[diagram p81: symbols R5F21227JFP to R5F21236KFP]

## R5F21227JFP
designator U?
R8C/22 Group Single Chip 16-Bit CMOS MCU, 48K ROM, 2.5K RAM, J Version; Published: 30-Oct-2009; DatasheetVersion: Rev.2.00, Aug-2008; PackageVersion: Oct-2005; PackageReference: PLQP0048KB-A; Publisher: Altium Limited; PackageDescription: 48-Pin Plastic Low Profile QFP, 7 x 7 x 1.4 mm Body, 0.5 mm Pitch; Code_JEITA: P-LQFP48-7x7-0.50; Code_IPC: SQFP50P900X900-48; ComponentLink1Description: Manufacturer Link; ComponentLink1URL: http://sg.renesas.com/fmwk.jsp?cnt=r8c_family_landing.jsp&fp=/products/mpumcu/r8c_family/; ComponentLink2Description: Datasheet; ComponentLink2URL: http://documentation.renesas.com/eng/products/mpumcu/rej03b0097_r8c2223ds.pdf; ComponentLink3Description: Packaging Specification; ComponentLink3URL: http://sg.renesas.com/media/products/common_info/package/pdf/ic/code/plqp0048kb_a.pdf
footprint PLQP0048KB-A_N (Shrink QFP, 48-Leads, Body 7x7mm, Pitch 0.5mm, IPC Medium Density)
footprint PLQP0048KB-A_L (Shrink QFP, 48-Leads, Body 7x7mm, Pitch 0.5mm, IPC High Density)
footprint PLQP0048KB-A_M (Shrink QFP, 48-Leads, Body 7x7mm, Pitch 0.5mm, IPC Low Density)
pins: 1 P3_5/SCL/SSCK (io), 2 P3_3/SSI (io), 3 P3_4/SDA/~{SCS} (io), 4 MODE (in), 5 P4_3 (io), 6 P4_4 (io), 7 ~{RESET} (in), 8 P4_7/XOUT, 9 VSS/AVSS (power), 10 P4_6/XIN (in), 11 VCC/AVCC (power), 12 P2_7/TRDIOD1 (io), 13 P2_6/TRDIOC1 (io), 14 P2_5/TRDIOB1 (io), 15 P2_4/TRDIOA1 (io), 16 P2_3/TRDIOD0 (io), 17 P2_2/TRDIOC0 (io), 18 P2_1/TRDIOB0 (io), 19 P2_0/TRDIOA0/TRDCLK (io), 20 P1_7/TRAIO/~{INT1} (io), 21 P1_6/CLK0 (io), 22 P1_5/RXD0/(TRAIO)/(~{INT1}) (io), 23 P1_4/TXD0 (io), 24 P1_3/~{KI3}/AN11 (io), 25 P4_5/~{INT0} (io), 26 P6_6/~{INT2}/TXD1 (io), 27 P6_7/~{INT3}/RXD1 (io), 28 P1_2/~{KI2}/AN10 (io), 29 P1_1/~{KI1}/AN9 (io), 30 P1_0/~{KI0}/AN8 (io), 31 P3_1/TRBO (io), 32 P3_0/TRAO (io), 33 P6_5 (io), 34 P6_4 (io), 35 P6_3 (io), 36 P0_7/AN0 (io), 37 P0_6/AN1 (io), 38 P0_5/AN2 (io), 39 P0_4/AN3 (io), 40 P4_2/VREF (io), 41 P6_0/TREO (io), 42 P6_2/CRX0 (io), 43 P6_1/CTX0 (io), 44 P0_3/AN4 (io), 45 P0_2/AN5 (io), 46 P0_1/AN6 (io), 47 P0_0/AN7 (io), 48 P3_7/SSO (io)

## R5F21227KFP
designator U?
R8C/22 Group Single Chip 16-Bit CMOS MCU, 48K ROM, 2.5K RAM, K Version; Published: 30-Oct-2009; DatasheetVersion: Rev.2.00, Aug-2008; PackageVersion: Oct-2005; PackageReference: PLQP0048KB-A; Publisher: Altium Limited; PackageDescription: 48-Pin Plastic Low Profile QFP, 7 x 7 x 1.4 mm Body, 0.5 mm Pitch; Code_JEITA: P-LQFP48-7x7-0.50; Code_IPC: SQFP50P900X900-48; ComponentLink1Description: Manufacturer Link; ComponentLink1URL: http://sg.renesas.com/fmwk.jsp?cnt=r8c_family_landing.jsp&fp=/products/mpumcu/r8c_family/; ComponentLink2Description: Datasheet; ComponentLink2URL: http://documentation.renesas.com/eng/products/mpumcu/rej03b0097_r8c2223ds.pdf; ComponentLink3Description: Packaging Specification; ComponentLink3URL: http://sg.renesas.com/media/products/common_info/package/pdf/ic/code/plqp0048kb_a.pdf
footprint PLQP0048KB-A_N (Shrink QFP, 48-Leads, Body 7x7mm, Pitch 0.5mm, IPC Medium Density)
footprint PLQP0048KB-A_L (Shrink QFP, 48-Leads, Body 7x7mm, Pitch 0.5mm, IPC High Density)
footprint PLQP0048KB-A_M (Shrink QFP, 48-Leads, Body 7x7mm, Pitch 0.5mm, IPC Low Density)
pins: 1 P3_5/SCL/SSCK (io), 2 P3_3/SSI (io), 3 P3_4/SDA/~{SCS} (io), 4 MODE (in), 5 P4_3 (io), 6 P4_4 (io), 7 ~{RESET} (in), 8 P4_7/XOUT, 9 VSS/AVSS (power), 10 P4_6/XIN (in), 11 VCC/AVCC (power), 12 P2_7/TRDIOD1 (io), 13 P2_6/TRDIOC1 (io), 14 P2_5/TRDIOB1 (io), 15 P2_4/TRDIOA1 (io), 16 P2_3/TRDIOD0 (io), 17 P2_2/TRDIOC0 (io), 18 P2_1/TRDIOB0 (io), 19 P2_0/TRDIOA0/TRDCLK (io), 20 P1_7/TRAIO/~{INT1} (io), 21 P1_6/CLK0 (io), 22 P1_5/RXD0/(TRAIO)/(~{INT1}) (io), 23 P1_4/TXD0 (io), 24 P1_3/~{KI3}/AN11 (io), 25 P4_5/~{INT0} (io), 26 P6_6/~{INT2}/TXD1 (io), 27 P6_7/~{INT3}/RXD1 (io), 28 P1_2/~{KI2}/AN10 (io), 29 P1_1/~{KI1}/AN9 (io), 30 P1_0/~{KI0}/AN8 (io), 31 P3_1/TRBO (io), 32 P3_0/TRAO (io), 33 P6_5 (io), 34 P6_4 (io), 35 P6_3 (io), 36 P0_7/AN0 (io), 37 P0_6/AN1 (io), 38 P0_5/AN2 (io), 39 P0_4/AN3 (io), 40 P4_2/VREF (io), 41 P6_0/TREO (io), 42 P6_2/CRX0 (io), 43 P6_1/CTX0 (io), 44 P0_3/AN4 (io), 45 P0_2/AN5 (io), 46 P0_1/AN6 (io), 47 P0_0/AN7 (io), 48 P3_7/SSO (io)

## R5F21228DFP
designator U?
R8C/22 Group Single Chip 16-Bit CMOS MCU, 64K ROM, 3K RAM, D Version; Published: 30-Oct-2009; DatasheetVersion: Rev.2.00, Aug-2008; PackageVersion: Oct-2005; PackageReference: PLQP0048KB-A; Publisher: Altium Limited; PackageDescription: 48-Pin Plastic Low Profile QFP, 7 x 7 x 1.4 mm Body, 0.5 mm Pitch; Code_JEITA: P-LQFP48-7x7-0.50; Code_IPC: SQFP50P900X900-48; ComponentLink1Description: Manufacturer Link; ComponentLink1URL: http://sg.renesas.com/fmwk.jsp?cnt=r8c_family_landing.jsp&fp=/products/mpumcu/r8c_family/; ComponentLink2Description: Datasheet; ComponentLink2URL: http://documentation.renesas.com/eng/products/mpumcu/rej03b0097_r8c2223ds.pdf; ComponentLink3Description: Packaging Specification; ComponentLink3URL: http://sg.renesas.com/media/products/common_info/package/pdf/ic/code/plqp0048kb_a.pdf
footprint PLQP0048KB-A_N (Shrink QFP, 48-Leads, Body 7x7mm, Pitch 0.5mm, IPC Medium Density)
footprint PLQP0048KB-A_L (Shrink QFP, 48-Leads, Body 7x7mm, Pitch 0.5mm, IPC High Density)
footprint PLQP0048KB-A_M (Shrink QFP, 48-Leads, Body 7x7mm, Pitch 0.5mm, IPC Low Density)
pins: 1 P3_5/SCL/SSCK (io), 2 P3_3/SSI (io), 3 P3_4/SDA/~{SCS} (io), 4 MODE (in), 5 P4_3 (io), 6 P4_4 (io), 7 ~{RESET} (in), 8 P4_7/XOUT, 9 VSS/AVSS (power), 10 P4_6/XIN (in), 11 VCC/AVCC (power), 12 P2_7/TRDIOD1 (io), 13 P2_6/TRDIOC1 (io), 14 P2_5/TRDIOB1 (io), 15 P2_4/TRDIOA1 (io), 16 P2_3/TRDIOD0 (io), 17 P2_2/TRDIOC0 (io), 18 P2_1/TRDIOB0 (io), 19 P2_0/TRDIOA0/TRDCLK (io), 20 P1_7/TRAIO/~{INT1} (io), 21 P1_6/CLK0 (io), 22 P1_5/RXD0/(TRAIO)/(~{INT1}) (io), 23 P1_4/TXD0 (io), 24 P1_3/~{KI3}/AN11 (io), 25 P4_5/~{INT0} (io), 26 P6_6/~{INT2}/TXD1 (io), 27 P6_7/~{INT3}/RXD1 (io), 28 P1_2/~{KI2}/AN10 (io), 29 P1_1/~{KI1}/AN9 (io), 30 P1_0/~{KI0}/AN8 (io), 31 P3_1/TRBO (io), 32 P3_0/TRAO (io), 33 P6_5 (io), 34 P6_4 (io), 35 P6_3 (io), 36 P0_7/AN0 (io), 37 P0_6/AN1 (io), 38 P0_5/AN2 (io), 39 P0_4/AN3 (io), 40 P4_2/VREF (io), 41 P6_0/TREO (io), 42 P6_2/CRX0 (io), 43 P6_1/CTX0 (io), 44 P0_3/AN4 (io), 45 P0_2/AN5 (io), 46 P0_1/AN6 (io), 47 P0_0/AN7 (io), 48 P3_7/SSO (io)

## R5F21228JFP
designator U?
R8C/22 Group Single Chip 16-Bit CMOS MCU, 64K ROM, 3K RAM, J Version; Published: 30-Oct-2009; DatasheetVersion: Rev.2.00, Aug-2008; PackageVersion: Oct-2005; PackageReference: PLQP0048KB-A; Publisher: Altium Limited; PackageDescription: 48-Pin Plastic Low Profile QFP, 7 x 7 x 1.4 mm Body, 0.5 mm Pitch; Code_JEITA: P-LQFP48-7x7-0.50; Code_IPC: SQFP50P900X900-48; ComponentLink1Description: Manufacturer Link; ComponentLink1URL: http://sg.renesas.com/fmwk.jsp?cnt=r8c_family_landing.jsp&fp=/products/mpumcu/r8c_family/; ComponentLink2Description: Datasheet; ComponentLink2URL: http://documentation.renesas.com/eng/products/mpumcu/rej03b0097_r8c2223ds.pdf; ComponentLink3Description: Packaging Specification; ComponentLink3URL: http://sg.renesas.com/media/products/common_info/package/pdf/ic/code/plqp0048kb_a.pdf
footprint PLQP0048KB-A_N (Shrink QFP, 48-Leads, Body 7x7mm, Pitch 0.5mm, IPC Medium Density)
footprint PLQP0048KB-A_L (Shrink QFP, 48-Leads, Body 7x7mm, Pitch 0.5mm, IPC High Density)
footprint PLQP0048KB-A_M (Shrink QFP, 48-Leads, Body 7x7mm, Pitch 0.5mm, IPC Low Density)
pins: 1 P3_5/SCL/SSCK (io), 2 P3_3/SSI (io), 3 P3_4/SDA/~{SCS} (io), 4 MODE (in), 5 P4_3 (io), 6 P4_4 (io), 7 ~{RESET} (in), 8 P4_7/XOUT, 9 VSS/AVSS (power), 10 P4_6/XIN (in), 11 VCC/AVCC (power), 12 P2_7/TRDIOD1 (io), 13 P2_6/TRDIOC1 (io), 14 P2_5/TRDIOB1 (io), 15 P2_4/TRDIOA1 (io), 16 P2_3/TRDIOD0 (io), 17 P2_2/TRDIOC0 (io), 18 P2_1/TRDIOB0 (io), 19 P2_0/TRDIOA0/TRDCLK (io), 20 P1_7/TRAIO/~{INT1} (io), 21 P1_6/CLK0 (io), 22 P1_5/RXD0/(TRAIO)/(~{INT1}) (io), 23 P1_4/TXD0 (io), 24 P1_3/~{KI3}/AN11 (io), 25 P4_5/~{INT0} (io), 26 P6_6/~{INT2}/TXD1 (io), 27 P6_7/~{INT3}/RXD1 (io), 28 P1_2/~{KI2}/AN10 (io), 29 P1_1/~{KI1}/AN9 (io), 30 P1_0/~{KI0}/AN8 (io), 31 P3_1/TRBO (io), 32 P3_0/TRAO (io), 33 P6_5 (io), 34 P6_4 (io), 35 P6_3 (io), 36 P0_7/AN0 (io), 37 P0_6/AN1 (io), 38 P0_5/AN2 (io), 39 P0_4/AN3 (io), 40 P4_2/VREF (io), 41 P6_0/TREO (io), 42 P6_2/CRX0 (io), 43 P6_1/CTX0 (io), 44 P0_3/AN4 (io), 45 P0_2/AN5 (io), 46 P0_1/AN6 (io), 47 P0_0/AN7 (io), 48 P3_7/SSO (io)

## R5F21228KFP
designator U?
R8C/22 Group Single Chip 16-Bit CMOS MCU, 64K ROM, 3K RAM, K Version; Published: 30-Oct-2009; DatasheetVersion: Rev.2.00, Aug-2008; PackageVersion: Oct-2005; PackageReference: PLQP0048KB-A; Publisher: Altium Limited; PackageDescription: 48-Pin Plastic Low Profile QFP, 7 x 7 x 1.4 mm Body, 0.5 mm Pitch; Code_JEITA: P-LQFP48-7x7-0.50; Code_IPC: SQFP50P900X900-48; ComponentLink1Description: Manufacturer Link; ComponentLink1URL: http://sg.renesas.com/fmwk.jsp?cnt=r8c_family_landing.jsp&fp=/products/mpumcu/r8c_family/; ComponentLink2Description: Datasheet; ComponentLink2URL: http://documentation.renesas.com/eng/products/mpumcu/rej03b0097_r8c2223ds.pdf; ComponentLink3Description: Packaging Specification; ComponentLink3URL: http://sg.renesas.com/media/products/common_info/package/pdf/ic/code/plqp0048kb_a.pdf
footprint PLQP0048KB-A_N (Shrink QFP, 48-Leads, Body 7x7mm, Pitch 0.5mm, IPC Medium Density)
footprint PLQP0048KB-A_L (Shrink QFP, 48-Leads, Body 7x7mm, Pitch 0.5mm, IPC High Density)
footprint PLQP0048KB-A_M (Shrink QFP, 48-Leads, Body 7x7mm, Pitch 0.5mm, IPC Low Density)
pins: 1 P3_5/SCL/SSCK (io), 2 P3_3/SSI (io), 3 P3_4/SDA/~{SCS} (io), 4 MODE (in), 5 P4_3 (io), 6 P4_4 (io), 7 ~{RESET} (in), 8 P4_7/XOUT, 9 VSS/AVSS (power), 10 P4_6/XIN (in), 11 VCC/AVCC (power), 12 P2_7/TRDIOD1 (io), 13 P2_6/TRDIOC1 (io), 14 P2_5/TRDIOB1 (io), 15 P2_4/TRDIOA1 (io), 16 P2_3/TRDIOD0 (io), 17 P2_2/TRDIOC0 (io), 18 P2_1/TRDIOB0 (io), 19 P2_0/TRDIOA0/TRDCLK (io), 20 P1_7/TRAIO/~{INT1} (io), 21 P1_6/CLK0 (io), 22 P1_5/RXD0/(TRAIO)/(~{INT1}) (io), 23 P1_4/TXD0 (io), 24 P1_3/~{KI3}/AN11 (io), 25 P4_5/~{INT0} (io), 26 P6_6/~{INT2}/TXD1 (io), 27 P6_7/~{INT3}/RXD1 (io), 28 P1_2/~{KI2}/AN10 (io), 29 P1_1/~{KI1}/AN9 (io), 30 P1_0/~{KI0}/AN8 (io), 31 P3_1/TRBO (io), 32 P3_0/TRAO (io), 33 P6_5 (io), 34 P6_4 (io), 35 P6_3 (io), 36 P0_7/AN0 (io), 37 P0_6/AN1 (io), 38 P0_5/AN2 (io), 39 P0_4/AN3 (io), 40 P4_2/VREF (io), 41 P6_0/TREO (io), 42 P6_2/CRX0 (io), 43 P6_1/CTX0 (io), 44 P0_3/AN4 (io), 45 P0_2/AN5 (io), 46 P0_1/AN6 (io), 47 P0_0/AN7 (io), 48 P3_7/SSO (io)

## R5F21236DFP
designator U?
R8C/23 Group Single Chip 16-Bit CMOS MCU, 32K ROM + 1K x2 Data Flash, 2K RAM, D Version; Published: 30-Oct-2009; DatasheetVersion: Rev.2.00, Aug-2008; PackageVersion: Oct-2005; PackageReference: PLQP0048KB-A; Publisher: Altium Limited; PackageDescription: 48-Pin Plastic Low Profile QFP, 7 x 7 x 1.4 mm Body, 0.5 mm Pitch; Code_JEITA: P-LQFP48-7x7-0.50; Code_IPC: SQFP50P900X900-48; ComponentLink1Description: Manufacturer Link; ComponentLink1URL: http://sg.renesas.com/fmwk.jsp?cnt=r8c_family_landing.jsp&fp=/products/mpumcu/r8c_family/; ComponentLink2Description: Datasheet; ComponentLink2URL: http://documentation.renesas.com/eng/products/mpumcu/rej03b0097_r8c2223ds.pdf; ComponentLink3Description: Packaging Specification; ComponentLink3URL: http://sg.renesas.com/media/products/common_info/package/pdf/ic/code/plqp0048kb_a.pdf
footprint PLQP0048KB-A_N (Shrink QFP, 48-Leads, Body 7x7mm, Pitch 0.5mm, IPC Medium Density)
footprint PLQP0048KB-A_L (Shrink QFP, 48-Leads, Body 7x7mm, Pitch 0.5mm, IPC High Density)
footprint PLQP0048KB-A_M (Shrink QFP, 48-Leads, Body 7x7mm, Pitch 0.5mm, IPC Low Density)
pins: 1 P3_5/SCL/SSCK (io), 2 P3_3/SSI (io), 3 P3_4/SDA/~{SCS} (io), 4 MODE (in), 5 P4_3 (io), 6 P4_4 (io), 7 ~{RESET} (in), 8 P4_7/XOUT, 9 VSS/AVSS (power), 10 P4_6/XIN (in), 11 VCC/AVCC (power), 12 P2_7/TRDIOD1 (io), 13 P2_6/TRDIOC1 (io), 14 P2_5/TRDIOB1 (io), 15 P2_4/TRDIOA1 (io), 16 P2_3/TRDIOD0 (io), 17 P2_2/TRDIOC0 (io), 18 P2_1/TRDIOB0 (io), 19 P2_0/TRDIOA0/TRDCLK (io), 20 P1_7/TRAIO/~{INT1} (io), 21 P1_6/CLK0 (io), 22 P1_5/RXD0/(TRAIO)/(~{INT1}) (io), 23 P1_4/TXD0 (io), 24 P1_3/~{KI3}/AN11 (io), 25 P4_5/~{INT0} (io), 26 P6_6/~{INT2}/TXD1 (io), 27 P6_7/~{INT3}/RXD1 (io), 28 P1_2/~{KI2}/AN10 (io), 29 P1_1/~{KI1}/AN9 (io), 30 P1_0/~{KI0}/AN8 (io), 31 P3_1/TRBO (io), 32 P3_0/TRAO (io), 33 P6_5 (io), 34 P6_4 (io), 35 P6_3 (io), 36 P0_7/AN0 (io), 37 P0_6/AN1 (io), 38 P0_5/AN2 (io), 39 P0_4/AN3 (io), 40 P4_2/VREF (io), 41 P6_0/TREO (io), 42 P6_2/CRX0 (io), 43 P6_1/CTX0 (io), 44 P0_3/AN4 (io), 45 P0_2/AN5 (io), 46 P0_1/AN6 (io), 47 P0_0/AN7 (io), 48 P3_7/SSO (io)

## R5F21236JFP
designator U?
R8C/23 Group Single Chip 16-Bit CMOS MCU, 32K ROM + 1K x2 Data Flash, 2K RAM, J Version; Published: 30-Oct-2009; DatasheetVersion: Rev.2.00, Aug-2008; PackageVersion: Oct-2005; PackageReference: PLQP0048KB-A; Publisher: Altium Limited; PackageDescription: 48-Pin Plastic Low Profile QFP, 7 x 7 x 1.4 mm Body, 0.5 mm Pitch; Supplier 1: Digi-Key; Supplier Part Number 1: R5F21236JFP-ND; Code_JEITA: P-LQFP48-7x7-0.50; Code_IPC: SQFP50P900X900-48; ComponentLink1Description: Manufacturer Link; ComponentLink1URL: http://sg.renesas.com/fmwk.jsp?cnt=r8c_family_landing.jsp&fp=/products/mpumcu/r8c_family/; ComponentLink2Description: Datasheet; ComponentLink2URL: http://documentation.renesas.com/eng/products/mpumcu/rej03b0097_r8c2223ds.pdf; ComponentLink3Description: Packaging Specification; ComponentLink3URL: http://sg.renesas.com/media/products/common_info/package/pdf/ic/code/plqp0048kb_a.pdf
footprint PLQP0048KB-A_N (Shrink QFP, 48-Leads, Body 7x7mm, Pitch 0.5mm, IPC Medium Density)
footprint PLQP0048KB-A_L (Shrink QFP, 48-Leads, Body 7x7mm, Pitch 0.5mm, IPC High Density)
footprint PLQP0048KB-A_M (Shrink QFP, 48-Leads, Body 7x7mm, Pitch 0.5mm, IPC Low Density)
pins: 1 P3_5/SCL/SSCK (io), 2 P3_3/SSI (io), 3 P3_4/SDA/~{SCS} (io), 4 MODE (in), 5 P4_3 (io), 6 P4_4 (io), 7 ~{RESET} (in), 8 P4_7/XOUT, 9 VSS/AVSS (power), 10 P4_6/XIN (in), 11 VCC/AVCC (power), 12 P2_7/TRDIOD1 (io), 13 P2_6/TRDIOC1 (io), 14 P2_5/TRDIOB1 (io), 15 P2_4/TRDIOA1 (io), 16 P2_3/TRDIOD0 (io), 17 P2_2/TRDIOC0 (io), 18 P2_1/TRDIOB0 (io), 19 P2_0/TRDIOA0/TRDCLK (io), 20 P1_7/TRAIO/~{INT1} (io), 21 P1_6/CLK0 (io), 22 P1_5/RXD0/(TRAIO)/(~{INT1}) (io), 23 P1_4/TXD0 (io), 24 P1_3/~{KI3}/AN11 (io), 25 P4_5/~{INT0} (io), 26 P6_6/~{INT2}/TXD1 (io), 27 P6_7/~{INT3}/RXD1 (io), 28 P1_2/~{KI2}/AN10 (io), 29 P1_1/~{KI1}/AN9 (io), 30 P1_0/~{KI0}/AN8 (io), 31 P3_1/TRBO (io), 32 P3_0/TRAO (io), 33 P6_5 (io), 34 P6_4 (io), 35 P6_3 (io), 36 P0_7/AN0 (io), 37 P0_6/AN1 (io), 38 P0_5/AN2 (io), 39 P0_4/AN3 (io), 40 P4_2/VREF (io), 41 P6_0/TREO (io), 42 P6_2/CRX0 (io), 43 P6_1/CTX0 (io), 44 P0_3/AN4 (io), 45 P0_2/AN5 (io), 46 P0_1/AN6 (io), 47 P0_0/AN7 (io), 48 P3_7/SSO (io)

## R5F21236KFP
designator U?
R8C/23 Group Single Chip 16-Bit CMOS MCU, 32K ROM + 1K x2 Data Flash, 2K RAM, K Version; Published: 30-Oct-2009; DatasheetVersion: Rev.2.00, Aug-2008; PackageVersion: Oct-2005; PackageReference: PLQP0048KB-A; Publisher: Altium Limited; PackageDescription: 48-Pin Plastic Low Profile QFP, 7 x 7 x 1.4 mm Body, 0.5 mm Pitch; Code_JEITA: P-LQFP48-7x7-0.50; Code_IPC: SQFP50P900X900-48; ComponentLink1Description: Manufacturer Link; ComponentLink1URL: http://sg.renesas.com/fmwk.jsp?cnt=r8c_family_landing.jsp&fp=/products/mpumcu/r8c_family/; ComponentLink2Description: Datasheet; ComponentLink2URL: http://documentation.renesas.com/eng/products/mpumcu/rej03b0097_r8c2223ds.pdf; ComponentLink3Description: Packaging Specification; ComponentLink3URL: http://sg.renesas.com/media/products/common_info/package/pdf/ic/code/plqp0048kb_a.pdf
footprint PLQP0048KB-A_N (Shrink QFP, 48-Leads, Body 7x7mm, Pitch 0.5mm, IPC Medium Density)
footprint PLQP0048KB-A_L (Shrink QFP, 48-Leads, Body 7x7mm, Pitch 0.5mm, IPC High Density)
footprint PLQP0048KB-A_M (Shrink QFP, 48-Leads, Body 7x7mm, Pitch 0.5mm, IPC Low Density)
pins: 1 P3_5/SCL/SSCK (io), 2 P3_3/SSI (io), 3 P3_4/SDA/~{SCS} (io), 4 MODE (in), 5 P4_3 (io), 6 P4_4 (io), 7 ~{RESET} (in), 8 P4_7/XOUT, 9 VSS/AVSS (power), 10 P4_6/XIN (in), 11 VCC/AVCC (power), 12 P2_7/TRDIOD1 (io), 13 P2_6/TRDIOC1 (io), 14 P2_5/TRDIOB1 (io), 15 P2_4/TRDIOA1 (io), 16 P2_3/TRDIOD0 (io), 17 P2_2/TRDIOC0 (io), 18 P2_1/TRDIOB0 (io), 19 P2_0/TRDIOA0/TRDCLK (io), 20 P1_7/TRAIO/~{INT1} (io), 21 P1_6/CLK0 (io), 22 P1_5/RXD0/(TRAIO)/(~{INT1}) (io), 23 P1_4/TXD0 (io), 24 P1_3/~{KI3}/AN11 (io), 25 P4_5/~{INT0} (io), 26 P6_6/~{INT2}/TXD1 (io), 27 P6_7/~{INT3}/RXD1 (io), 28 P1_2/~{KI2}/AN10 (io), 29 P1_1/~{KI1}/AN9 (io), 30 P1_0/~{KI0}/AN8 (io), 31 P3_1/TRBO (io), 32 P3_0/TRAO (io), 33 P6_5 (io), 34 P6_4 (io), 35 P6_3 (io), 36 P0_7/AN0 (io), 37 P0_6/AN1 (io), 38 P0_5/AN2 (io), 39 P0_4/AN3 (io), 40 P4_2/VREF (io), 41 P6_0/TREO (io), 42 P6_2/CRX0 (io), 43 P6_1/CTX0 (io), 44 P0_3/AN4 (io), 45 P0_2/AN5 (io), 46 P0_1/AN6 (io), 47 P0_0/AN7 (io), 48 P3_7/SSO (io)

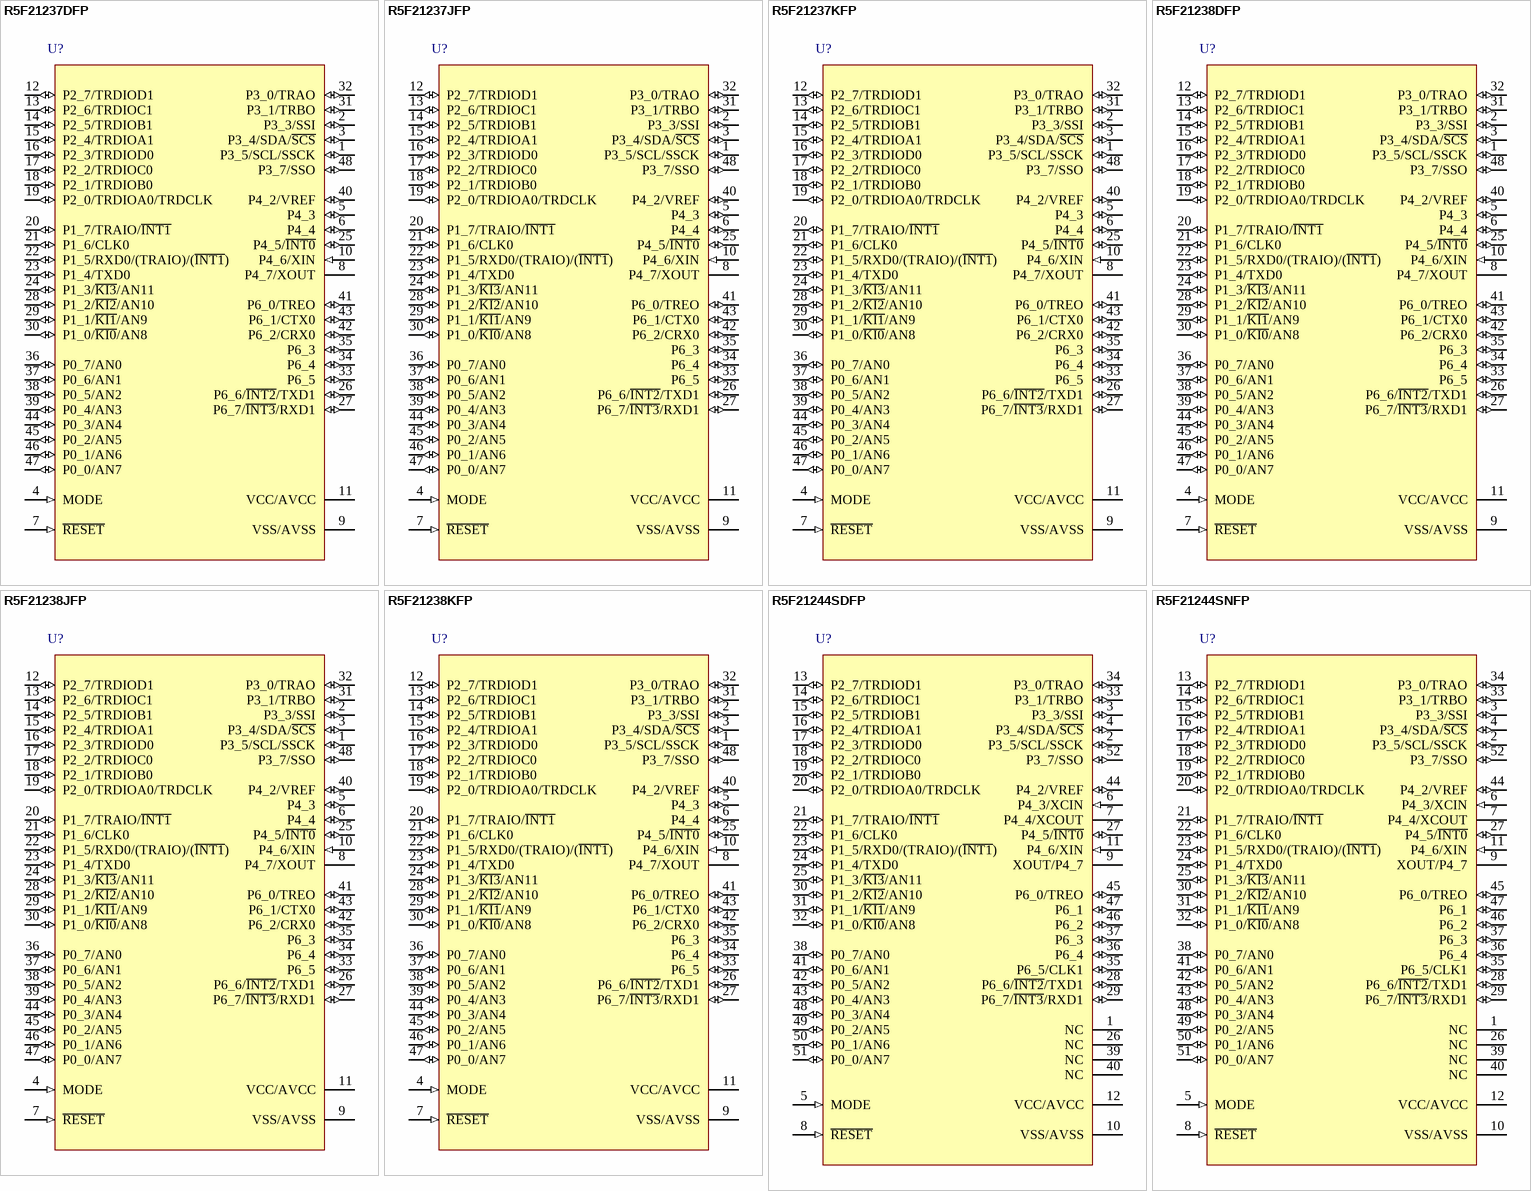
[diagram p82: symbols R5F21237DFP to R5F21244SNFP]

## R5F21237DFP
designator U?
R8C/23 Group Single Chip 16-Bit CMOS MCU, 48K ROM + 1K x2 Data Flash, 2.5K RAM, D Version; Published: 30-Oct-2009; DatasheetVersion: Rev.2.00, Aug-2008; PackageVersion: Oct-2005; PackageReference: PLQP0048KB-A; Publisher: Altium Limited; PackageDescription: 48-Pin Plastic Low Profile QFP, 7 x 7 x 1.4 mm Body, 0.5 mm Pitch; Code_JEITA: P-LQFP48-7x7-0.50; Code_IPC: SQFP50P900X900-48; ComponentLink1Description: Manufacturer Link; ComponentLink1URL: http://sg.renesas.com/fmwk.jsp?cnt=r8c_family_landing.jsp&fp=/products/mpumcu/r8c_family/; ComponentLink2Description: Datasheet; ComponentLink2URL: http://documentation.renesas.com/eng/products/mpumcu/rej03b0097_r8c2223ds.pdf; ComponentLink3Description: Packaging Specification; ComponentLink3URL: http://sg.renesas.com/media/products/common_info/package/pdf/ic/code/plqp0048kb_a.pdf
footprint PLQP0048KB-A_N (Shrink QFP, 48-Leads, Body 7x7mm, Pitch 0.5mm, IPC Medium Density)
footprint PLQP0048KB-A_L (Shrink QFP, 48-Leads, Body 7x7mm, Pitch 0.5mm, IPC High Density)
footprint PLQP0048KB-A_M (Shrink QFP, 48-Leads, Body 7x7mm, Pitch 0.5mm, IPC Low Density)
pins: 1 P3_5/SCL/SSCK (io), 2 P3_3/SSI (io), 3 P3_4/SDA/~{SCS} (io), 4 MODE (in), 5 P4_3 (io), 6 P4_4 (io), 7 ~{RESET} (in), 8 P4_7/XOUT, 9 VSS/AVSS (power), 10 P4_6/XIN (in), 11 VCC/AVCC (power), 12 P2_7/TRDIOD1 (io), 13 P2_6/TRDIOC1 (io), 14 P2_5/TRDIOB1 (io), 15 P2_4/TRDIOA1 (io), 16 P2_3/TRDIOD0 (io), 17 P2_2/TRDIOC0 (io), 18 P2_1/TRDIOB0 (io), 19 P2_0/TRDIOA0/TRDCLK (io), 20 P1_7/TRAIO/~{INT1} (io), 21 P1_6/CLK0 (io), 22 P1_5/RXD0/(TRAIO)/(~{INT1}) (io), 23 P1_4/TXD0 (io), 24 P1_3/~{KI3}/AN11 (io), 25 P4_5/~{INT0} (io), 26 P6_6/~{INT2}/TXD1 (io), 27 P6_7/~{INT3}/RXD1 (io), 28 P1_2/~{KI2}/AN10 (io), 29 P1_1/~{KI1}/AN9 (io), 30 P1_0/~{KI0}/AN8 (io), 31 P3_1/TRBO (io), 32 P3_0/TRAO (io), 33 P6_5 (io), 34 P6_4 (io), 35 P6_3 (io), 36 P0_7/AN0 (io), 37 P0_6/AN1 (io), 38 P0_5/AN2 (io), 39 P0_4/AN3 (io), 40 P4_2/VREF (io), 41 P6_0/TREO (io), 42 P6_2/CRX0 (io), 43 P6_1/CTX0 (io), 44 P0_3/AN4 (io), 45 P0_2/AN5 (io), 46 P0_1/AN6 (io), 47 P0_0/AN7 (io), 48 P3_7/SSO (io)

## R5F21237JFP
designator U?
R8C/23 Group Single Chip 16-Bit CMOS MCU, 48K ROM + 1K x2 Data Flash, 2.5K RAM, J Version; Published: 30-Oct-2009; DatasheetVersion: Rev.2.00, Aug-2008; PackageVersion: Oct-2005; PackageReference: PLQP0048KB-A; Publisher: Altium Limited; PackageDescription: 48-Pin Plastic Low Profile QFP, 7 x 7 x 1.4 mm Body, 0.5 mm Pitch; Supplier 1: Digi-Key; Supplier Part Number 1: R5F21237JFP-ND; Code_JEITA: P-LQFP48-7x7-0.50; Code_IPC: SQFP50P900X900-48; ComponentLink1Description: Manufacturer Link; ComponentLink1URL: http://sg.renesas.com/fmwk.jsp?cnt=r8c_family_landing.jsp&fp=/products/mpumcu/r8c_family/; ComponentLink2Description: Datasheet; ComponentLink2URL: http://documentation.renesas.com/eng/products/mpumcu/rej03b0097_r8c2223ds.pdf; ComponentLink3Description: Packaging Specification; ComponentLink3URL: http://sg.renesas.com/media/products/common_info/package/pdf/ic/code/plqp0048kb_a.pdf
footprint PLQP0048KB-A_N (Shrink QFP, 48-Leads, Body 7x7mm, Pitch 0.5mm, IPC Medium Density)
footprint PLQP0048KB-A_L (Shrink QFP, 48-Leads, Body 7x7mm, Pitch 0.5mm, IPC High Density)
footprint PLQP0048KB-A_M (Shrink QFP, 48-Leads, Body 7x7mm, Pitch 0.5mm, IPC Low Density)
pins: 1 P3_5/SCL/SSCK (io), 2 P3_3/SSI (io), 3 P3_4/SDA/~{SCS} (io), 4 MODE (in), 5 P4_3 (io), 6 P4_4 (io), 7 ~{RESET} (in), 8 P4_7/XOUT, 9 VSS/AVSS (power), 10 P4_6/XIN (in), 11 VCC/AVCC (power), 12 P2_7/TRDIOD1 (io), 13 P2_6/TRDIOC1 (io), 14 P2_5/TRDIOB1 (io), 15 P2_4/TRDIOA1 (io), 16 P2_3/TRDIOD0 (io), 17 P2_2/TRDIOC0 (io), 18 P2_1/TRDIOB0 (io), 19 P2_0/TRDIOA0/TRDCLK (io), 20 P1_7/TRAIO/~{INT1} (io), 21 P1_6/CLK0 (io), 22 P1_5/RXD0/(TRAIO)/(~{INT1}) (io), 23 P1_4/TXD0 (io), 24 P1_3/~{KI3}/AN11 (io), 25 P4_5/~{INT0} (io), 26 P6_6/~{INT2}/TXD1 (io), 27 P6_7/~{INT3}/RXD1 (io), 28 P1_2/~{KI2}/AN10 (io), 29 P1_1/~{KI1}/AN9 (io), 30 P1_0/~{KI0}/AN8 (io), 31 P3_1/TRBO (io), 32 P3_0/TRAO (io), 33 P6_5 (io), 34 P6_4 (io), 35 P6_3 (io), 36 P0_7/AN0 (io), 37 P0_6/AN1 (io), 38 P0_5/AN2 (io), 39 P0_4/AN3 (io), 40 P4_2/VREF (io), 41 P6_0/TREO (io), 42 P6_2/CRX0 (io), 43 P6_1/CTX0 (io), 44 P0_3/AN4 (io), 45 P0_2/AN5 (io), 46 P0_1/AN6 (io), 47 P0_0/AN7 (io), 48 P3_7/SSO (io)

## R5F21237KFP
designator U?
R8C/23 Group Single Chip 16-Bit CMOS MCU, 48K ROM + 1K x2 Data Flash, 2.5K RAM, K Version; Published: 30-Oct-2009; DatasheetVersion: Rev.2.00, Aug-2008; PackageVersion: Oct-2005; PackageReference: PLQP0048KB-A; Publisher: Altium Limited; PackageDescription: 48-Pin Plastic Low Profile QFP, 7 x 7 x 1.4 mm Body, 0.5 mm Pitch; Code_JEITA: P-LQFP48-7x7-0.50; Code_IPC: SQFP50P900X900-48; ComponentLink1Description: Manufacturer Link; ComponentLink1URL: http://sg.renesas.com/fmwk.jsp?cnt=r8c_family_landing.jsp&fp=/products/mpumcu/r8c_family/; ComponentLink2Description: Datasheet; ComponentLink2URL: http://documentation.renesas.com/eng/products/mpumcu/rej03b0097_r8c2223ds.pdf; ComponentLink3Description: Packaging Specification; ComponentLink3URL: http://sg.renesas.com/media/products/common_info/package/pdf/ic/code/plqp0048kb_a.pdf
footprint PLQP0048KB-A_N (Shrink QFP, 48-Leads, Body 7x7mm, Pitch 0.5mm, IPC Medium Density)
footprint PLQP0048KB-A_L (Shrink QFP, 48-Leads, Body 7x7mm, Pitch 0.5mm, IPC High Density)
footprint PLQP0048KB-A_M (Shrink QFP, 48-Leads, Body 7x7mm, Pitch 0.5mm, IPC Low Density)
pins: 1 P3_5/SCL/SSCK (io), 2 P3_3/SSI (io), 3 P3_4/SDA/~{SCS} (io), 4 MODE (in), 5 P4_3 (io), 6 P4_4 (io), 7 ~{RESET} (in), 8 P4_7/XOUT, 9 VSS/AVSS (power), 10 P4_6/XIN (in), 11 VCC/AVCC (power), 12 P2_7/TRDIOD1 (io), 13 P2_6/TRDIOC1 (io), 14 P2_5/TRDIOB1 (io), 15 P2_4/TRDIOA1 (io), 16 P2_3/TRDIOD0 (io), 17 P2_2/TRDIOC0 (io), 18 P2_1/TRDIOB0 (io), 19 P2_0/TRDIOA0/TRDCLK (io), 20 P1_7/TRAIO/~{INT1} (io), 21 P1_6/CLK0 (io), 22 P1_5/RXD0/(TRAIO)/(~{INT1}) (io), 23 P1_4/TXD0 (io), 24 P1_3/~{KI3}/AN11 (io), 25 P4_5/~{INT0} (io), 26 P6_6/~{INT2}/TXD1 (io), 27 P6_7/~{INT3}/RXD1 (io), 28 P1_2/~{KI2}/AN10 (io), 29 P1_1/~{KI1}/AN9 (io), 30 P1_0/~{KI0}/AN8 (io), 31 P3_1/TRBO (io), 32 P3_0/TRAO (io), 33 P6_5 (io), 34 P6_4 (io), 35 P6_3 (io), 36 P0_7/AN0 (io), 37 P0_6/AN1 (io), 38 P0_5/AN2 (io), 39 P0_4/AN3 (io), 40 P4_2/VREF (io), 41 P6_0/TREO (io), 42 P6_2/CRX0 (io), 43 P6_1/CTX0 (io), 44 P0_3/AN4 (io), 45 P0_2/AN5 (io), 46 P0_1/AN6 (io), 47 P0_0/AN7 (io), 48 P3_7/SSO (io)